# Altium footprint library Relay.PcbLib: 3 footprints
Each footprint in its own frame and in the unit in brackets; x right, y up, seen from the top. Pads: shape width x height; smd on the part's side, far side on the other; paste and mask are expansions set on the pad; w line width, h text height; cw(c..) or ccw(c..) is an arc to the next point about the centre after c.
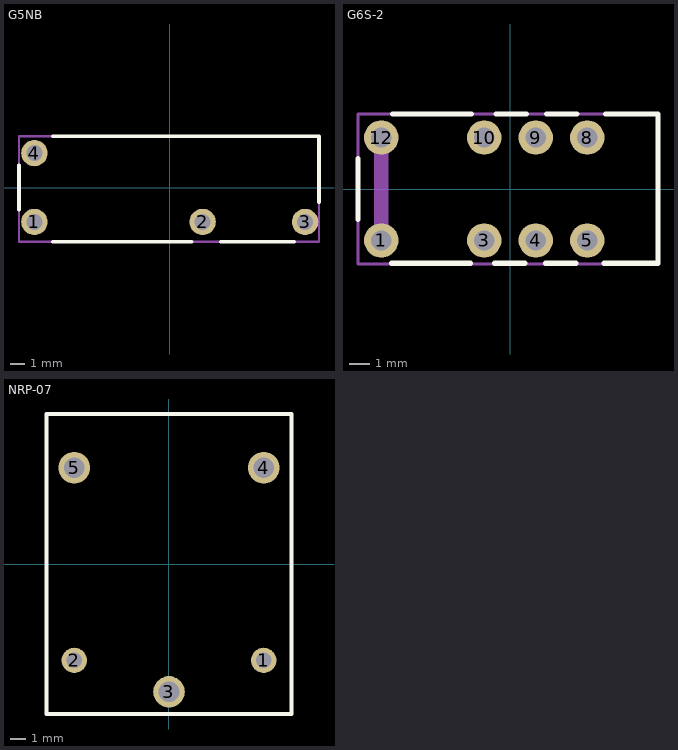
[diagram p0: the footprints below, top view; thin cyan lines are the x and y axes]

## G5NB [mm]
pads (4):
  round 1.8 hole 1.1: 1(-9.25,-2.35) 2(2.25,-2.35) 3(9.25,-2.35) 4(-9.25,2.35)
Top Overlay:
  lines w0.254: -10.3,-1.5 -10.3,1.5 ; -8,-3.7 1.5,-3.7 ; -8,3.5 10.2,3.5 10.2,-1 ; 3.5,-3.7 8.5,-3.7
Top Assembly:
  lines w0.15: -10.3,-3.7 10.2,-3.7 10.2,3.5 -10.3,3.5 -10.3,-3.7
3D body "g5nb.step": height 15.86, standoff -2.85, extent -10.4,-3.6 10.1,3.6

## G6S-2 [mm]
pads (8):
  round 1.7 hole 1: 1(-6.35,-2.54) 3(-1.27,-2.54) 4(1.27,-2.54) 5(3.81,-2.54) 8(3.81,2.54) 9(1.27,2.54) 10(-1.27,2.54) 12(-6.35,2.54)
Top Overlay:
  lines w0.25: -7.5,-1.5 -7.5,1.5 ; -5.856,-3.664 -1.956,-3.664 ; -5.8,3.7 -1.9,3.7 ; -0.756,-3.664 0.744,-3.664 ; -0.7,3.7 0.8,3.7 ; 1.744,-3.664 3.244,-3.664 ; 1.8,3.7 3.3,3.7 ; 4.644,-3.664 7.3,-3.664 7.3,3.7 4.7,3.7
Top Assembly:
  rectangle: -6.7,-3 -6,3
  lines w0.15: -7.5,-3.7 7.3,-3.7 7.3,3.7 -7.5,3.7 -7.5,-3.7
3D body "G6S-2.STEP": height 9.25, standoff -2.25, extent -7.5,-3.65 7.3,3.65

## NRP-07 [mm]
pads (5):
  round 1.6 hole 1: 1(6,-6.1) 2(-6,-6.1)
  round 2 hole 1.3: 3(0,-8.1) 4(6,6.1) 5(-6,6.1)
Top Overlay:
  lines w0.25: -7.75,-9.5 7.75,-9.5 7.75,9.5 -7.75,9.5 -7.75,-9.5
Top Assembly:
  lines w0.15: -7.75,-9.5 7.75,-9.5 7.75,9.5 -7.75,9.5 -7.75,-9.5
3D body "NRP-07.step": height 16, standoff -2.9, extent -7.75,-9.5 7.75,9.5